# EAGLE library part LP4020 (library dword1511-pmic-dcdc)
2.5A Synchronous Buck Li-ion Charger
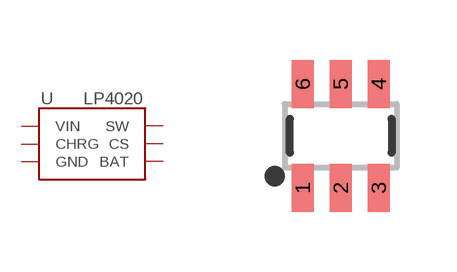
[diagram p35: symbol with the pads of SOT-23-6; footprint SOT-23-6]

Designator prefix U

## LP4020B6F  [SOT-23-6]
1  CHRG  oc
2  GND  pwr
3  VIN  pwr
4  SW  out
5  CS  in
6  BAT

## Footprint SOT-23-6 (pad centres in mm)
smd 0.55 x 1.2: 1 -0.95,-1.3; 2 0,-1.3; 3 0.95,-1.3; 4 0.95,1.3; 5 0,1.3; 6 -0.95,1.3